# EAGLE library part 7027-P (library tubes)
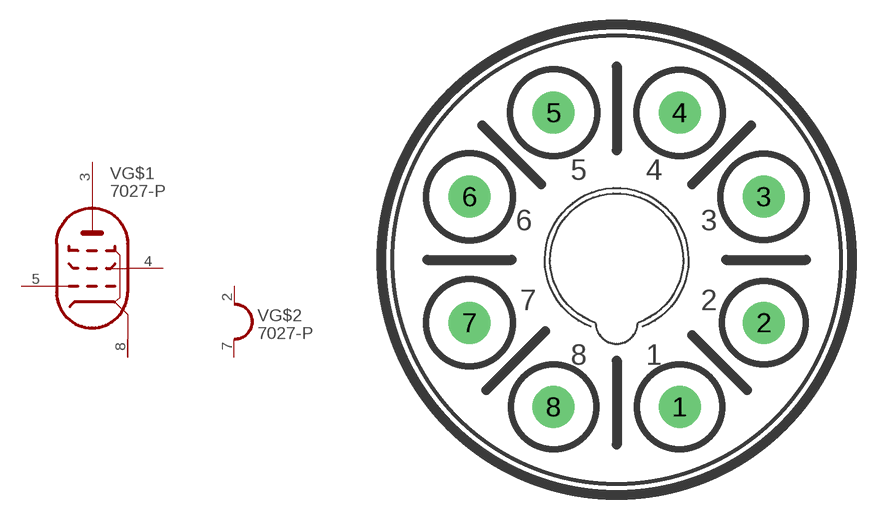
[diagram p41: symbol with the pads of OKTAL; footprint OKTAL]

Designator prefix V; gates G$1=PENTODE G$2=HEATER_1

## 7027-P  [OKTAL]
2  G$2:H1  pas
3  G$1:PA  pas
4  G$1:PSG  pas
5  G$1:PG  pas
7  G$2:H2  pas
8  G$1:PK  pas

## Footprint OKTAL (pad centres in mm)
drill 1.27 pad 2.54: 1 3.81,-8.89; 2 8.89,-3.81; 3 8.89,3.81; 4 3.81,8.89; 5 -3.81,8.89; 6 -8.89,3.81; 7 -8.89,-3.81; 8 -3.81,-8.89